# Altium footprint library CAP_500V_470uF.PcbLib: 1 footprints
Each footprint in its own frame and in the unit in brackets; x right, y up, seen from the top. Pads: shape width x height; smd on the part's side, far side on the other; paste and mask are expansions set on the pad; w line width, h text height; cw(c..) or ccw(c..) is an arc to the next point about the centre after c.
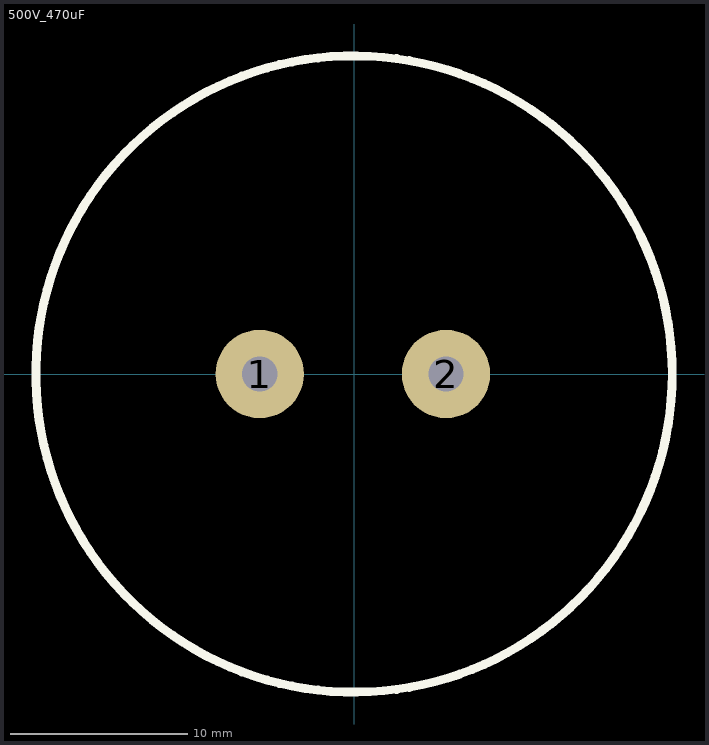
[diagram p0: the footprint, top view; thin cyan lines are the x and y axes]

## 500V_470uF [mm]
pads (2):
  round 5 hole 2: 1(-5.334,0) 2(5.207,0)
Top Overlay:
  circle w0.5: c0,0 r18
3D body "NIPPON 500V 470uF 105C.STEP": height 59.97, standoff -4.03, extent -17.6,-17.597 17.61,17.609